# Altium integrated library ISSI SRAM Asynchronous SRAM 5V High-Speed.IntLib: 100 symbols (part 1 of 5)
Pins are listed as number, name and electrical type; pins without a type are passive.

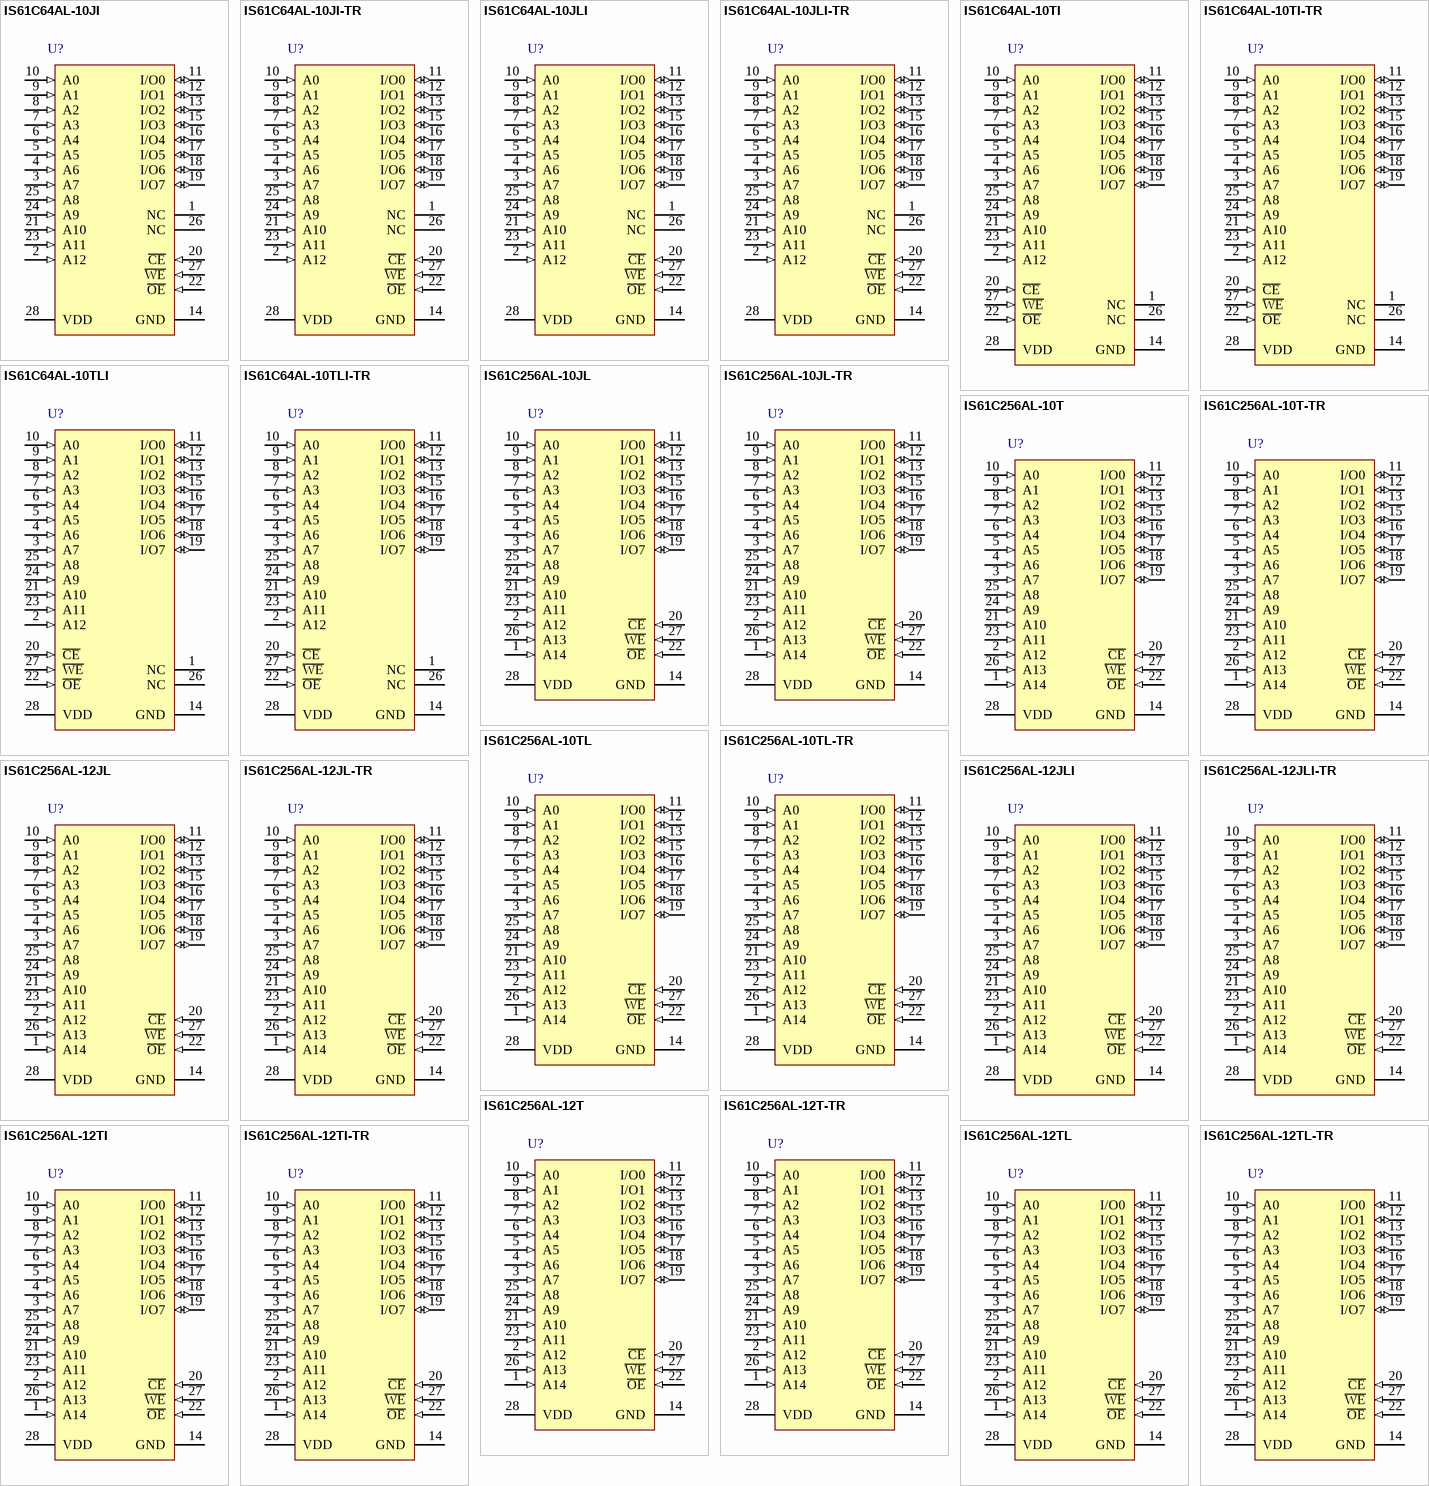
[diagram p0: symbols IS61C64AL-10JI to IS61C256AL-12TL-TR]

## IS61C64AL-10JI
designator U?
64 K High Speed CMOS SRAM, 8 K x 8, -40 to 85 degC, 28-Pin SOJ (SOJ-28_A); Manufacturer: Integrated Silicon Solution Inc (ISSI); PartNumber: IS61C64AL-10JI; Density: 64K; Organization: 8K x 8; Packing: Tray / Tube; Speed (ns): 10; DatasheetVersion: Rev. B; PackageVersion: Rev. D, 02/2003; PackageReference: SOJ-28; PackageDescription: 28-Pin 300 mil SOJ, Body 18.415 x 7.62 mm, Pitch 1.27 mm; Mounting Technology: Surface Mount; ComponentLink1Description: Manufacturer URL; ComponentLink1URL: http://www.issi.com/US/index.shtml; ComponentLink2Description: Datasheet; ComponentLink2URL: http://www.issi.com/WW/pdf/61C64AL.pdf; ComponentLink3Description: Package Specification; ComponentLink3URL: http://www.issi.com/WW/pdf/61C64AL.pdf
footprint ISSI-SOJ-28_B_N (SOJ, 258-Leads, Body 18.54x7.75mm, Pitch 1.27mm, IPC Medium Density)
pins: 1 NC "No Connect", 2 A12 (in) "Address Input", 3 A7 (in) "Address Input", 4 A6 (in) "Address Input", 5 A5 (in) "Address Input", 6 A4 (in) "Address Input", 7 A3 (in) "Address Input", 8 A2 (in) "Address Input", 9 A1 (in) "Address Input", 10 A0 (in) "Address Input", 11 I/O0 (io) "Input/Output", 12 I/O1 (io) "Input/Output", 13 I/O2 (io) "Input/Output", 14 GND (power) "Ground", 15 I/O3 (io) "Input/Output", 16 I/O4 (io) "Input/Output", 17 I/O5 (io) "Input/Output", 18 I/O6 (io) "Input/Output", 19 I/O7 (io) "Input/Output", 20 ~{CE} (in) "Chip Enable 1 Input", 21 A10 (in) "Address Input", 22 ~{OE} (in) "Output Enable Input", 23 A11 (in) "Address Input", 24 A9 (in) "Address Input", 25 A8 (in) "Address Input", 26 NC "No Connect", 27 ~{WE} (in) "Write Enable Input", 28 VDD (power) "Power"

## IS61C64AL-10JI-TR
designator U?
64 K High Speed CMOS SRAM, 8 K x 8, -40 to 85 degC, 28-Pin SOJ (SOJ-28_A); Manufacturer: Integrated Silicon Solution Inc (ISSI); PartNumber: IS61C64AL-10JI-TR; Density: 64K; Organization: 8K x 8; Packing: Tape & Reel; Speed (ns): 10; DatasheetVersion: Rev. B; PackageVersion: Rev. D, 02/2003; PackageReference: SOJ-28; PackageDescription: 28-Pin 300 mil SOJ, Body 18.415 x 7.62 mm, Pitch 1.27 mm; Mounting Technology: Surface Mount; ComponentLink1Description: Manufacturer URL; ComponentLink1URL: http://www.issi.com/US/index.shtml; ComponentLink2Description: Datasheet; ComponentLink2URL: http://www.issi.com/WW/pdf/61C64AL.pdf; ComponentLink3Description: Package Specification; ComponentLink3URL: http://www.issi.com/WW/pdf/61C64AL.pdf
footprint ISSI-SOJ-28_B_N (SOJ, 258-Leads, Body 18.54x7.75mm, Pitch 1.27mm, IPC Medium Density)
pins: 1 NC "No Connect", 2 A12 (in) "Address Input", 3 A7 (in) "Address Input", 4 A6 (in) "Address Input", 5 A5 (in) "Address Input", 6 A4 (in) "Address Input", 7 A3 (in) "Address Input", 8 A2 (in) "Address Input", 9 A1 (in) "Address Input", 10 A0 (in) "Address Input", 11 I/O0 (io) "Input/Output", 12 I/O1 (io) "Input/Output", 13 I/O2 (io) "Input/Output", 14 GND (power) "Ground", 15 I/O3 (io) "Input/Output", 16 I/O4 (io) "Input/Output", 17 I/O5 (io) "Input/Output", 18 I/O6 (io) "Input/Output", 19 I/O7 (io) "Input/Output", 20 ~{CE} (in) "Chip Enable 1 Input", 21 A10 (in) "Address Input", 22 ~{OE} (in) "Output Enable Input", 23 A11 (in) "Address Input", 24 A9 (in) "Address Input", 25 A8 (in) "Address Input", 26 NC "No Connect", 27 ~{WE} (in) "Write Enable Input", 28 VDD (power) "Power"

## IS61C64AL-10JLI
designator U?
64 K High Speed CMOS SRAM, 8 K x 8, -40 to 85 degC, 28-Pin SOJ (SOJ-28_A), Pb-Free; Manufacturer: Integrated Silicon Solution Inc (ISSI); PartNumber: IS61C64AL-10JLI; Density: 64K; Organization: 8K x 8; Packing: Tray / Tube; Speed (ns): 10; DatasheetVersion: Rev. B; PackageVersion: Rev. D, 02/2003; PackageReference: SOJ-28; PackageDescription: 28-Pin 300 mil SOJ, Body 18.415 x 7.62 mm, Pitch 1.27 mm; Supplier 1: Digi-Key; Supplier Part Number 1: 706-1090-ND; Supplier 2: Mouser; Supplier Part Number 2: 870-IS61C64AL-10JLI; RoHS: Pb-Free; Mounting Technology: Surface Mount; ComponentLink1Description: Manufacturer URL; ComponentLink1URL: http://www.issi.com/US/index.shtml; ComponentLink2Description: Datasheet; ComponentLink2URL: http://www.issi.com/WW/pdf/61C64AL.pdf; ComponentLink3Description: Package Specification; ComponentLink3URL: http://www.issi.com/WW/pdf/61C64AL.pdf
footprint ISSI-SOJ-28_B_N (SOJ, 258-Leads, Body 18.54x7.75mm, Pitch 1.27mm, IPC Medium Density)
pins: 1 NC "No Connect", 2 A12 (in) "Address Input", 3 A7 (in) "Address Input", 4 A6 (in) "Address Input", 5 A5 (in) "Address Input", 6 A4 (in) "Address Input", 7 A3 (in) "Address Input", 8 A2 (in) "Address Input", 9 A1 (in) "Address Input", 10 A0 (in) "Address Input", 11 I/O0 (io) "Input/Output", 12 I/O1 (io) "Input/Output", 13 I/O2 (io) "Input/Output", 14 GND (power) "Ground", 15 I/O3 (io) "Input/Output", 16 I/O4 (io) "Input/Output", 17 I/O5 (io) "Input/Output", 18 I/O6 (io) "Input/Output", 19 I/O7 (io) "Input/Output", 20 ~{CE} (in) "Chip Enable 1 Input", 21 A10 (in) "Address Input", 22 ~{OE} (in) "Output Enable Input", 23 A11 (in) "Address Input", 24 A9 (in) "Address Input", 25 A8 (in) "Address Input", 26 NC "No Connect", 27 ~{WE} (in) "Write Enable Input", 28 VDD (power) "Power"

## IS61C64AL-10JLI-TR
designator U?
64 K High Speed CMOS SRAM, 8 K x 8, -40 to 85 degC, 28-Pin SOJ (SOJ-28_A), Pb-Free; Manufacturer: Integrated Silicon Solution Inc (ISSI); PartNumber: IS61C64AL-10JLI-TR; Density: 64K; Organization: 8K x 8; Packing: Tape & Reel; Speed (ns): 10; DatasheetVersion: Rev. B; PackageVersion: Rev. D, 02/2003; PackageReference: SOJ-28; PackageDescription: 28-Pin 300 mil SOJ, Body 18.415 x 7.62 mm, Pitch 1.27 mm; Supplier 1: Digi-Key; Supplier Part Number 1: IS61C64AL-10JLI-TR-ND; Supplier 2: Mouser; Supplier Part Number 2: 870-IS61C64AL10JLITR; RoHS: Pb-Free; Mounting Technology: Surface Mount; ComponentLink1Description: Manufacturer URL; ComponentLink1URL: http://www.issi.com/US/index.shtml; ComponentLink2Description: Datasheet; ComponentLink2URL: http://www.issi.com/WW/pdf/61C64AL.pdf; ComponentLink3Description: Package Specification; ComponentLink3URL: http://www.issi.com/WW/pdf/61C64AL.pdf
footprint ISSI-SOJ-28_B_N (SOJ, 258-Leads, Body 18.54x7.75mm, Pitch 1.27mm, IPC Medium Density)
pins: 1 NC "No Connect", 2 A12 (in) "Address Input", 3 A7 (in) "Address Input", 4 A6 (in) "Address Input", 5 A5 (in) "Address Input", 6 A4 (in) "Address Input", 7 A3 (in) "Address Input", 8 A2 (in) "Address Input", 9 A1 (in) "Address Input", 10 A0 (in) "Address Input", 11 I/O0 (io) "Input/Output", 12 I/O1 (io) "Input/Output", 13 I/O2 (io) "Input/Output", 14 GND (power) "Ground", 15 I/O3 (io) "Input/Output", 16 I/O4 (io) "Input/Output", 17 I/O5 (io) "Input/Output", 18 I/O6 (io) "Input/Output", 19 I/O7 (io) "Input/Output", 20 ~{CE} (in) "Chip Enable 1 Input", 21 A10 (in) "Address Input", 22 ~{OE} (in) "Output Enable Input", 23 A11 (in) "Address Input", 24 A9 (in) "Address Input", 25 A8 (in) "Address Input", 26 NC "No Connect", 27 ~{WE} (in) "Write Enable Input", 28 VDD (power) "Power"

## IS61C64AL-10TI
designator U?
64 K High Speed CMOS SRAM, 8 K x 8, -40 to 85 degC, 28-Pin SOP (TSOP-1-28); Manufacturer: Integrated Silicon Solution Inc (ISSI); PartNumber: IS61C64AL-10TI; Density: 64K; Organization: 8K x 8; Packing: Tray / Tube; Speed (ns): 10; DatasheetVersion: Rev. B; PackageVersion: Rev. F, 09/2009; PackageReference: TSOP-1-28; PackageDescription: 28-Pin 8 x 13.4 mm TSOP-1, Pitch 0.55 mm; Mounting Technology: Surface Mount; Code_JEDEC: MO- 183; ComponentLink1Description: Manufacturer URL; ComponentLink1URL: http://www.issi.com/US/index.shtml; ComponentLink2Description: Datasheet; ComponentLink2URL: http://www.issi.com/WW/pdf/61C64AL.pdf; ComponentLink3Description: Package Specification; ComponentLink3URL: http://www.issi.com/WW/pdf/62-65C256AL.pdf
footprint ISSI-TSOP-1-28-8000X13400DE_N (SOP, 28-Leads, Body 11.9x8.1mm, Pitch 0.55mm, IPC Medium Density)
pins: 1 NC "No Connect", 2 A12 (in) "Address Inputs", 3 A7 (in) "Address Inputs", 4 A6 (in) "Address Inputs", 5 A5 (in) "Address Inputs", 6 A4 (in) "Address Inputs", 7 A3 (in) "Address Inputs", 8 A2 (in) "Address Inputs", 9 A1 (in) "Address Inputs", 10 A0 (in) "Address Inputs", 11 I/O0 (io) "Input/Output", 12 I/O1 (io) "Input/Output", 13 I/O2 (io) "Input/Output", 14 GND (power) "Ground", 15 I/O3 (io) "Input/Output", 16 I/O4 (io) "Input/Output", 17 I/O5 (io) "Input/Output", 18 I/O6 (io) "Input/Output", 19 I/O7 (io) "Input/Output", 20 ~{CE} (in) "Chip Enable 1 Input", 21 A10 (in) "Address Inputs", 22 ~{OE} (in) "Output Enable Input", 23 A11 (in) "Address Inputs", 24 A9 (in) "Address Inputs", 25 A8 (in) "Address Inputs", 26 NC "No Connect", 27 ~{WE} (in) "Write Enable Input", 28 VDD (power) "Power"

## IS61C64AL-10TI-TR
designator U?
64 K High Speed CMOS SRAM, 8 K x 8, -40 to 85 degC, 28-Pin SOP (TSOP-1-28); Manufacturer: Integrated Silicon Solution Inc (ISSI); PartNumber: IS61C64AL-10TI-TR; Density: 64K; Organization: 8K x 8; Packing: Tape & Reel; Speed (ns): 10; DatasheetVersion: Rev. B; PackageVersion: Rev. F, 09/2009; PackageReference: TSOP-1-28; PackageDescription: 28-Pin 8 x 13.4 mm TSOP-1, Pitch 0.55 mm; Mounting Technology: Surface Mount; Code_JEDEC: MO- 183; ComponentLink1Description: Manufacturer URL; ComponentLink1URL: http://www.issi.com/US/index.shtml; ComponentLink2Description: Datasheet; ComponentLink2URL: http://www.issi.com/WW/pdf/61C64AL.pdf; ComponentLink3Description: Package Specification; ComponentLink3URL: http://www.issi.com/WW/pdf/62-65C256AL.pdf
footprint ISSI-TSOP-1-28-8000X13400DE_N (SOP, 28-Leads, Body 11.9x8.1mm, Pitch 0.55mm, IPC Medium Density)
pins: 1 NC "No Connect", 2 A12 (in) "Address Inputs", 3 A7 (in) "Address Inputs", 4 A6 (in) "Address Inputs", 5 A5 (in) "Address Inputs", 6 A4 (in) "Address Inputs", 7 A3 (in) "Address Inputs", 8 A2 (in) "Address Inputs", 9 A1 (in) "Address Inputs", 10 A0 (in) "Address Inputs", 11 I/O0 (io) "Input/Output", 12 I/O1 (io) "Input/Output", 13 I/O2 (io) "Input/Output", 14 GND (power) "Ground", 15 I/O3 (io) "Input/Output", 16 I/O4 (io) "Input/Output", 17 I/O5 (io) "Input/Output", 18 I/O6 (io) "Input/Output", 19 I/O7 (io) "Input/Output", 20 ~{CE} (in) "Chip Enable 1 Input", 21 A10 (in) "Address Inputs", 22 ~{OE} (in) "Output Enable Input", 23 A11 (in) "Address Inputs", 24 A9 (in) "Address Inputs", 25 A8 (in) "Address Inputs", 26 NC "No Connect", 27 ~{WE} (in) "Write Enable Input", 28 VDD (power) "Power"

## IS61C64AL-10TLI
designator U?
64 K High Speed CMOS SRAM, 8 K x 8, -40 to 85 degC, 28-Pin SOP (TSOP-1-28), Pb-Free; Manufacturer: Integrated Silicon Solution Inc (ISSI); PartNumber: IS61C64AL-10TLI; Density: 64K; Organization: 8K x 8; Packing: Tray / Tube; Speed (ns): 10; DatasheetVersion: Rev. B; PackageVersion: Rev. B, 01/1997; PackageReference: TSOP-1-28; PackageDescription: 28-Pin Plastic TSOP-1, Body 8 x 11.8 mm, Pitch 0.55 mm; Supplier 1: Digi-Key; Supplier Part Number 1: IS61C64AL-10TLI-ND; Supplier 2: Mouser; Supplier Part Number 2: 870-IS61C64AL-10TLI; RoHS: Pb-Free; Mounting Technology: Surface Mount; ComponentLink1Description: Manufacturer URL; ComponentLink1URL: http://www.issi.com/US/index.shtml; ComponentLink2Description: Datasheet; ComponentLink2URL: http://www.issi.com/WW/pdf/61C64AL.pdf; ComponentLink3Description: Package Specification; ComponentLink3URL: http://www.issi.com/WW/pdf/61C64AL.pdf
footprint ISSI-TSOP-1-28-8000X11800DE_N (SOP, 28-Leads, Body 11.9x8.1mm, Pitch 0.55mm, IPC Medium Density)
pins: 1 NC "No Connect", 2 A12 (in) "Address Inputs", 3 A7 (in) "Address Inputs", 4 A6 (in) "Address Inputs", 5 A5 (in) "Address Inputs", 6 A4 (in) "Address Inputs", 7 A3 (in) "Address Inputs", 8 A2 (in) "Address Inputs", 9 A1 (in) "Address Inputs", 10 A0 (in) "Address Inputs", 11 I/O0 (io) "Input/Output", 12 I/O1 (io) "Input/Output", 13 I/O2 (io) "Input/Output", 14 GND (power) "Ground", 15 I/O3 (io) "Input/Output", 16 I/O4 (io) "Input/Output", 17 I/O5 (io) "Input/Output", 18 I/O6 (io) "Input/Output", 19 I/O7 (io) "Input/Output", 20 ~{CE} (in) "Chip Enable 1 Input", 21 A10 (in) "Address Inputs", 22 ~{OE} (in) "Output Enable Input", 23 A11 (in) "Address Inputs", 24 A9 (in) "Address Inputs", 25 A8 (in) "Address Inputs", 26 NC "No Connect", 27 ~{WE} (in) "Write Enable Input", 28 VDD (power) "Power"

## IS61C64AL-10TLI-TR
designator U?
64 K High Speed CMOS SRAM, 8 K x 8, -40 to 85 degC, 28-Pin SOP (TSOP-1-28), Pb-Free; Manufacturer: Integrated Silicon Solution Inc (ISSI); PartNumber: IS61C64AL-10TLI-TR; Density: 64K; Organization: 8K x 8; Packing: Tape & Reel; Speed (ns): 10; DatasheetVersion: Rev. B; PackageVersion: Rev. F, 09/2009; PackageReference: TSOP-1-28; PackageDescription: 28-Pin 8 x 13.4 mm TSOP-1, Pitch 0.55 mm; Supplier 1: Digi-Key; Supplier Part Number 1: IS61C64AL-10TLI-TR-ND; Supplier 2: Newark; Supplier Part Number 2: 43M5050; Supplier 3: Mouser; Supplier Part Number 3: 870-IS61C64AL10TLITR; RoHS: Pb-Free; Mounting Technology: Surface Mount; Code_JEDEC: MO- 183; ComponentLink1Description: Manufacturer URL; ComponentLink1URL: http://www.issi.com/US/index.shtml; ComponentLink2Description: Datasheet; ComponentLink2URL: http://www.issi.com/WW/pdf/61C64AL.pdf; ComponentLink3Description: Package Specification; ComponentLink3URL: http://www.issi.com/WW/pdf/62-65C256AL.pdf
footprint ISSI-TSOP-1-28-8000X13400DE_N (SOP, 28-Leads, Body 11.9x8.1mm, Pitch 0.55mm, IPC Medium Density)
pins: 1 NC "No Connect", 2 A12 (in) "Address Inputs", 3 A7 (in) "Address Inputs", 4 A6 (in) "Address Inputs", 5 A5 (in) "Address Inputs", 6 A4 (in) "Address Inputs", 7 A3 (in) "Address Inputs", 8 A2 (in) "Address Inputs", 9 A1 (in) "Address Inputs", 10 A0 (in) "Address Inputs", 11 I/O0 (io) "Input/Output", 12 I/O1 (io) "Input/Output", 13 I/O2 (io) "Input/Output", 14 GND (power) "Ground", 15 I/O3 (io) "Input/Output", 16 I/O4 (io) "Input/Output", 17 I/O5 (io) "Input/Output", 18 I/O6 (io) "Input/Output", 19 I/O7 (io) "Input/Output", 20 ~{CE} (in) "Chip Enable 1 Input", 21 A10 (in) "Address Inputs", 22 ~{OE} (in) "Output Enable Input", 23 A11 (in) "Address Inputs", 24 A9 (in) "Address Inputs", 25 A8 (in) "Address Inputs", 26 NC "No Connect", 27 ~{WE} (in) "Write Enable Input", 28 VDD (power) "Power"

## IS61C256AL-10JL
designator U?
256 K High Speed CMOS SRAM, 32 K x 8, 0 to 70 degC, 28-Pin SOJ (SOJ-28_A), Pb-Free; Manufacturer: Integrated Silicon Solution Inc (ISSI); PartNumber: IS61C256AL-10JL; Density: 256K; Organization: 32K x 8; Packing: Tray / Tube; Speed (ns): 10; DatasheetVersion: Rev. C; PackageVersion: Rev. C, 07/2006; PackageReference: SOJ-28; PackageDescription: 28-Pin 300 mil SOJ, Body 18.12 x 7.585 mm, Pitch 1.27 mm; RoHS: Pb-Free; Mounting Technology: Surface Mount; ComponentLink1Description: Manufacturer URL; ComponentLink1URL: http://www.issi.com/US/index.shtml; ComponentLink2Description: Datasheet; ComponentLink2URL: http://www.issi.com/WW/pdf/61C256AL.pdf; ComponentLink3Description: Package Specification; ComponentLink3URL: http://www.issi.com/WW/pdf/61C256AL.pdf
footprint ISSI-SOJ-28_A_N (SOJ, 28-Leads, Body 18.54x7.75mm, Pitch 1.27mm, IPC Medium Density)
pins: 1 A14 (in) "Address Input", 2 A12 (in) "Address Input", 3 A7 (in) "Address Input", 4 A6 (in) "Address Input", 5 A5 (in) "Address Input", 6 A4 (in) "Address Input", 7 A3 (in) "Address Input", 8 A2 (in) "Address Input", 9 A1 (in) "Address Input", 10 A0 (in) "Address Input", 11 I/O0 (io) "Input/Output", 12 I/O1 (io) "Input/Output", 13 I/O2 (io) "Input/Output", 14 GND (power) "Ground", 15 I/O3 (io) "Input/Output", 16 I/O4 (io) "Input/Output", 17 I/O5 (io) "Input/Output", 18 I/O6 (io) "Input/Output", 19 I/O7 (io) "Input/Output", 20 ~{CE} (in) "Chip Enable 1 Input", 21 A10 (in) "Address Input", 22 ~{OE} (in) "Output Enable Input", 23 A11 (in) "Address Input", 24 A9 (in) "Address Input", 25 A8 (in) "Address Input", 26 A13 (in) "Address Input", 27 ~{WE} (in) "Write Enable Input", 28 VDD (power) "Power"

## IS61C256AL-10JL-TR
designator U?
256 K High Speed CMOS SRAM, 32 K x 8, 0 to 70 degC, 28-Pin SOJ (SOJ-28_A), Pb-Free; Manufacturer: Integrated Silicon Solution Inc (ISSI); PartNumber: IS61C256AL-10JL-TR; Density: 256K; Organization: 32K x 8; Packing: Tape & Reel; Speed (ns): 10; DatasheetVersion: Rev. C; PackageVersion: Rev. C, 07/2006; PackageReference: SOJ-28; PackageDescription: 28-Pin 300 mil SOJ, Body 18.12 x 7.585 mm, Pitch 1.27 mm; RoHS: Pb-Free; Mounting Technology: Surface Mount; ComponentLink1Description: Manufacturer URL; ComponentLink1URL: http://www.issi.com/US/index.shtml; ComponentLink2Description: Datasheet; ComponentLink2URL: http://www.issi.com/WW/pdf/61C256AL.pdf; ComponentLink3Description: Package Specification; ComponentLink3URL: http://www.issi.com/WW/pdf/61C256AL.pdf
footprint ISSI-SOJ-28_A_N (SOJ, 28-Leads, Body 18.54x7.75mm, Pitch 1.27mm, IPC Medium Density)
pins: 1 A14 (in) "Address Input", 2 A12 (in) "Address Input", 3 A7 (in) "Address Input", 4 A6 (in) "Address Input", 5 A5 (in) "Address Input", 6 A4 (in) "Address Input", 7 A3 (in) "Address Input", 8 A2 (in) "Address Input", 9 A1 (in) "Address Input", 10 A0 (in) "Address Input", 11 I/O0 (io) "Input/Output", 12 I/O1 (io) "Input/Output", 13 I/O2 (io) "Input/Output", 14 GND (power) "Ground", 15 I/O3 (io) "Input/Output", 16 I/O4 (io) "Input/Output", 17 I/O5 (io) "Input/Output", 18 I/O6 (io) "Input/Output", 19 I/O7 (io) "Input/Output", 20 ~{CE} (in) "Chip Enable 1 Input", 21 A10 (in) "Address Input", 22 ~{OE} (in) "Output Enable Input", 23 A11 (in) "Address Input", 24 A9 (in) "Address Input", 25 A8 (in) "Address Input", 26 A13 (in) "Address Input", 27 ~{WE} (in) "Write Enable Input", 28 VDD (power) "Power"

## IS61C256AL-10T
designator U?
256 K High Speed CMOS SRAM, 32 K x 8, 0 to 70 degC, 28-Pin SOP (TSOP-1-28); Manufacturer: Integrated Silicon Solution Inc (ISSI); PartNumber: IS61C256AL-10T; Density: 256K; Organization: 32K x 8; Packing: Tray / Tube; Speed (ns): 10; DatasheetVersion: Rev. C; PackageVersion: Rev. F, 09/2009; PackageReference: TSOP-1-28; PackageDescription: 28-Pin 8 x 13.4 mm TSOP-1, Pitch 0.55 mm; Mounting Technology: Surface Mount; Code_JEDEC: MO- 183; ComponentLink1Description: Manufacturer URL; ComponentLink1URL: http://www.issi.com/US/index.shtml; ComponentLink2Description: Datasheet; ComponentLink2URL: http://www.issi.com/WW/pdf/61C256AL.pdf; ComponentLink3Description: Package Specification; ComponentLink3URL: http://www.issi.com/WW/pdf/62-65C256AL.pdf
footprint ISSI-TSOP-1-28-8000X13400DE_N (SOP, 28-Leads, Body 11.9x8.1mm, Pitch 0.55mm, IPC Medium Density)
pins: 1 A14 (in) "Address Input", 2 A12 (in) "Address Input", 3 A7 (in) "Address Input", 4 A6 (in) "Address Input", 5 A5 (in) "Address Input", 6 A4 (in) "Address Input", 7 A3 (in) "Address Input", 8 A2 (in) "Address Input", 9 A1 (in) "Address Input", 10 A0 (in) "Address Input", 11 I/O0 (io) "Input/Output", 12 I/O1 (io) "Input/Output", 13 I/O2 (io) "Input/Output", 14 GND (power) "Ground", 15 I/O3 (io) "Input/Output", 16 I/O4 (io) "Input/Output", 17 I/O5 (io) "Input/Output", 18 I/O6 (io) "Input/Output", 19 I/O7 (io) "Input/Output", 20 ~{CE} (in) "Chip Enable 1 Input", 21 A10 (in) "Address Input", 22 ~{OE} (in) "Output Enable Input", 23 A11 (in) "Address Input", 24 A9 (in) "Address Input", 25 A8 (in) "Address Input", 26 A13 (in) "Address Input", 27 ~{WE} (in) "Write Enable Input", 28 VDD (power) "Power"

## IS61C256AL-10T-TR
designator U?
256 K High Speed CMOS SRAM, 32 K x 8, 0 to 70 degC, 28-Pin SOP (TSOP-1-28); Manufacturer: Integrated Silicon Solution Inc (ISSI); PartNumber: IS61C256AL-10T-TR; Density: 256K; Organization: 32K x 8; Packing: Tape & Reel; Speed (ns): 10; DatasheetVersion: Rev. C; PackageVersion: Rev. F, 09/2009; PackageReference: TSOP-1-28; PackageDescription: 28-Pin 8 x 13.4 mm TSOP-1, Pitch 0.55 mm; Mounting Technology: Surface Mount; Code_JEDEC: MO- 183; ComponentLink1Description: Manufacturer URL; ComponentLink1URL: http://www.issi.com/US/index.shtml; ComponentLink2Description: Datasheet; ComponentLink2URL: http://www.issi.com/WW/pdf/61C256AL.pdf; ComponentLink3Description: Package Specification; ComponentLink3URL: http://www.issi.com/WW/pdf/62-65C256AL.pdf
footprint ISSI-TSOP-1-28-8000X13400DE_N (SOP, 28-Leads, Body 11.9x8.1mm, Pitch 0.55mm, IPC Medium Density)
pins: 1 A14 (in) "Address Input", 2 A12 (in) "Address Input", 3 A7 (in) "Address Input", 4 A6 (in) "Address Input", 5 A5 (in) "Address Input", 6 A4 (in) "Address Input", 7 A3 (in) "Address Input", 8 A2 (in) "Address Input", 9 A1 (in) "Address Input", 10 A0 (in) "Address Input", 11 I/O0 (io) "Input/Output", 12 I/O1 (io) "Input/Output", 13 I/O2 (io) "Input/Output", 14 GND (power) "Ground", 15 I/O3 (io) "Input/Output", 16 I/O4 (io) "Input/Output", 17 I/O5 (io) "Input/Output", 18 I/O6 (io) "Input/Output", 19 I/O7 (io) "Input/Output", 20 ~{CE} (in) "Chip Enable 1 Input", 21 A10 (in) "Address Input", 22 ~{OE} (in) "Output Enable Input", 23 A11 (in) "Address Input", 24 A9 (in) "Address Input", 25 A8 (in) "Address Input", 26 A13 (in) "Address Input", 27 ~{WE} (in) "Write Enable Input", 28 VDD (power) "Power"

## IS61C256AL-10TL
designator U?
256 K High Speed CMOS SRAM, 32 K x 8, 0 to 70 degC, 28-Pin SOP (TSOP-1-28), Pb-Free; Manufacturer: Integrated Silicon Solution Inc (ISSI); PartNumber: IS61C256AL-10TL; Density: 256K; Organization: 32K x 8; Packing: Tray / Tube; Speed (ns): 10; DatasheetVersion: Rev. C; PackageVersion: Rev. F, 09/2009; PackageReference: TSOP-1-28; PackageDescription: 28-Pin 8 x 13.4 mm TSOP-1, Pitch 0.55 mm; RoHS: Pb-Free; Mounting Technology: Surface Mount; Code_JEDEC: MO- 183; ComponentLink1Description: Manufacturer URL; ComponentLink1URL: http://www.issi.com/US/index.shtml; ComponentLink2Description: Datasheet; ComponentLink2URL: http://www.issi.com/WW/pdf/61C256AL.pdf; ComponentLink3Description: Package Specification; ComponentLink3URL: http://www.issi.com/WW/pdf/62-65C256AL.pdf
footprint ISSI-TSOP-1-28-8000X13400DE_N (SOP, 28-Leads, Body 11.9x8.1mm, Pitch 0.55mm, IPC Medium Density)
pins: 1 A14 (in) "Address Input", 2 A12 (in) "Address Input", 3 A7 (in) "Address Input", 4 A6 (in) "Address Input", 5 A5 (in) "Address Input", 6 A4 (in) "Address Input", 7 A3 (in) "Address Input", 8 A2 (in) "Address Input", 9 A1 (in) "Address Input", 10 A0 (in) "Address Input", 11 I/O0 (io) "Input/Output", 12 I/O1 (io) "Input/Output", 13 I/O2 (io) "Input/Output", 14 GND (power) "Ground", 15 I/O3 (io) "Input/Output", 16 I/O4 (io) "Input/Output", 17 I/O5 (io) "Input/Output", 18 I/O6 (io) "Input/Output", 19 I/O7 (io) "Input/Output", 20 ~{CE} (in) "Chip Enable 1 Input", 21 A10 (in) "Address Input", 22 ~{OE} (in) "Output Enable Input", 23 A11 (in) "Address Input", 24 A9 (in) "Address Input", 25 A8 (in) "Address Input", 26 A13 (in) "Address Input", 27 ~{WE} (in) "Write Enable Input", 28 VDD (power) "Power"

## IS61C256AL-10TL-TR
designator U?
256 K High Speed CMOS SRAM, 32 K x 8, 0 to 70 degC, 28-Pin SOP (TSOP-1-28), Pb-Free; Manufacturer: Integrated Silicon Solution Inc (ISSI); PartNumber: IS61C256AL-10TL-TR; Density: 256K; Organization: 32K x 8; Packing: Tape & Reel; Speed (ns): 10; DatasheetVersion: Rev. C; PackageVersion: Rev. F, 09/2009; PackageReference: TSOP-1-28; PackageDescription: 28-Pin 8 x 13.4 mm TSOP-1, Pitch 0.55 mm; RoHS: Pb-Free; Mounting Technology: Surface Mount; Code_JEDEC: MO- 183; ComponentLink1Description: Manufacturer URL; ComponentLink1URL: http://www.issi.com/US/index.shtml; ComponentLink2Description: Datasheet; ComponentLink2URL: http://www.issi.com/WW/pdf/61C256AL.pdf; ComponentLink3Description: Package Specification; ComponentLink3URL: http://www.issi.com/WW/pdf/62-65C256AL.pdf
footprint ISSI-TSOP-1-28-8000X13400DE_N (SOP, 28-Leads, Body 11.9x8.1mm, Pitch 0.55mm, IPC Medium Density)
pins: 1 A14 (in) "Address Input", 2 A12 (in) "Address Input", 3 A7 (in) "Address Input", 4 A6 (in) "Address Input", 5 A5 (in) "Address Input", 6 A4 (in) "Address Input", 7 A3 (in) "Address Input", 8 A2 (in) "Address Input", 9 A1 (in) "Address Input", 10 A0 (in) "Address Input", 11 I/O0 (io) "Input/Output", 12 I/O1 (io) "Input/Output", 13 I/O2 (io) "Input/Output", 14 GND (power) "Ground", 15 I/O3 (io) "Input/Output", 16 I/O4 (io) "Input/Output", 17 I/O5 (io) "Input/Output", 18 I/O6 (io) "Input/Output", 19 I/O7 (io) "Input/Output", 20 ~{CE} (in) "Chip Enable 1 Input", 21 A10 (in) "Address Input", 22 ~{OE} (in) "Output Enable Input", 23 A11 (in) "Address Input", 24 A9 (in) "Address Input", 25 A8 (in) "Address Input", 26 A13 (in) "Address Input", 27 ~{WE} (in) "Write Enable Input", 28 VDD (power) "Power"

## IS61C256AL-12JL
designator U?
256 K High Speed CMOS SRAM, 32 K x 8, 0 to 70 degC, 28-Pin SOJ (SOJ-28_A), Pb-Free; Manufacturer: Integrated Silicon Solution Inc (ISSI); PartNumber: IS61C256AL-12JL; Density: 256K; Organization: 32K x 8; Packing: Tray / Tube; Speed (ns): 12; DatasheetVersion: Rev. C; PackageVersion: Rev. C, 07/2006; PackageReference: SOJ-28; PackageDescription: 28-Pin 300 mil SOJ, Body 18.12 x 7.585 mm, Pitch 1.27 mm; RoHS: Pb-Free; Mounting Technology: Surface Mount; ComponentLink1Description: Manufacturer URL; ComponentLink1URL: http://www.issi.com/US/index.shtml; ComponentLink2Description: Datasheet; ComponentLink2URL: http://www.issi.com/WW/pdf/61C256AL.pdf; ComponentLink3Description: Package Specification; ComponentLink3URL: http://www.issi.com/WW/pdf/61C256AL.pdf
footprint ISSI-SOJ-28_A_N (SOJ, 28-Leads, Body 18.54x7.75mm, Pitch 1.27mm, IPC Medium Density)
pins: 1 A14 (in) "Address Input", 2 A12 (in) "Address Input", 3 A7 (in) "Address Input", 4 A6 (in) "Address Input", 5 A5 (in) "Address Input", 6 A4 (in) "Address Input", 7 A3 (in) "Address Input", 8 A2 (in) "Address Input", 9 A1 (in) "Address Input", 10 A0 (in) "Address Input", 11 I/O0 (io) "Input/Output", 12 I/O1 (io) "Input/Output", 13 I/O2 (io) "Input/Output", 14 GND (power) "Ground", 15 I/O3 (io) "Input/Output", 16 I/O4 (io) "Input/Output", 17 I/O5 (io) "Input/Output", 18 I/O6 (io) "Input/Output", 19 I/O7 (io) "Input/Output", 20 ~{CE} (in) "Chip Enable 1 Input", 21 A10 (in) "Address Input", 22 ~{OE} (in) "Output Enable Input", 23 A11 (in) "Address Input", 24 A9 (in) "Address Input", 25 A8 (in) "Address Input", 26 A13 (in) "Address Input", 27 ~{WE} (in) "Write Enable Input", 28 VDD (power) "Power"

## IS61C256AL-12JL-TR
designator U?
256 K High Speed CMOS SRAM, 32 K x 8, 0 to 70 degC, 28-Pin SOJ (SOJ-28_A), Pb-Free; Manufacturer: Integrated Silicon Solution Inc (ISSI); PartNumber: IS61C256AL-12JL-TR; Density: 256K; Organization: 32K x 8; Packing: Tape & Reel; Speed (ns): 12; DatasheetVersion: Rev. C; PackageVersion: Rev. C, 07/2006; PackageReference: SOJ-28; PackageDescription: 28-Pin 300 mil SOJ, Body 18.12 x 7.585 mm, Pitch 1.27 mm; RoHS: Pb-Free; Mounting Technology: Surface Mount; ComponentLink1Description: Manufacturer URL; ComponentLink1URL: http://www.issi.com/US/index.shtml; ComponentLink2Description: Datasheet; ComponentLink2URL: http://www.issi.com/WW/pdf/61C256AL.pdf; ComponentLink3Description: Package Specification; ComponentLink3URL: http://www.issi.com/WW/pdf/61C256AL.pdf
footprint ISSI-SOJ-28_A_N (SOJ, 28-Leads, Body 18.54x7.75mm, Pitch 1.27mm, IPC Medium Density)
pins: 1 A14 (in) "Address Input", 2 A12 (in) "Address Input", 3 A7 (in) "Address Input", 4 A6 (in) "Address Input", 5 A5 (in) "Address Input", 6 A4 (in) "Address Input", 7 A3 (in) "Address Input", 8 A2 (in) "Address Input", 9 A1 (in) "Address Input", 10 A0 (in) "Address Input", 11 I/O0 (io) "Input/Output", 12 I/O1 (io) "Input/Output", 13 I/O2 (io) "Input/Output", 14 GND (power) "Ground", 15 I/O3 (io) "Input/Output", 16 I/O4 (io) "Input/Output", 17 I/O5 (io) "Input/Output", 18 I/O6 (io) "Input/Output", 19 I/O7 (io) "Input/Output", 20 ~{CE} (in) "Chip Enable 1 Input", 21 A10 (in) "Address Input", 22 ~{OE} (in) "Output Enable Input", 23 A11 (in) "Address Input", 24 A9 (in) "Address Input", 25 A8 (in) "Address Input", 26 A13 (in) "Address Input", 27 ~{WE} (in) "Write Enable Input", 28 VDD (power) "Power"

## IS61C256AL-12JLI
designator U?
256 K High Speed CMOS SRAM, 32 K x 8, -40 to 85 degC, 28-Pin SOJ (SOJ-28_A), Pb-Free; Manufacturer: Integrated Silicon Solution Inc (ISSI); PartNumber: IS61C256AL-12JLI; Density: 256K; Organization: 32K x 8; Packing: Tray / Tube; Speed (ns): 12; DatasheetVersion: Rev. C; PackageVersion: Rev. C, 07/2006; PackageReference: SOJ-28; PackageDescription: 28-Pin 300 mil SOJ, Body 18.12 x 7.585 mm, Pitch 1.27 mm; Supplier 1: Digi-Key; Supplier Part Number 1: 706-1030-ND; Supplier 2: Farnell; Supplier Part Number 2: 2119197; Supplier 3: Newark; Supplier Part Number 3: 43M5035; Supplier 4: Mouser; Supplier Part Number 4: 870-IS61C256AL-12JLI; RoHS: Pb-Free; Mounting Technology: Surface Mount; ComponentLink1Description: Manufacturer URL; ComponentLink1URL: http://www.issi.com/US/index.shtml; ComponentLink2Description: Datasheet; ComponentLink2URL: http://www.issi.com/WW/pdf/61C256AL.pdf; ComponentLink3Description: Package Specification; ComponentLink3URL: http://www.issi.com/WW/pdf/61C256AL.pdf
footprint ISSI-SOJ-28_A_N (SOJ, 28-Leads, Body 18.54x7.75mm, Pitch 1.27mm, IPC Medium Density)
pins: 1 A14 (in) "Address Input", 2 A12 (in) "Address Input", 3 A7 (in) "Address Input", 4 A6 (in) "Address Input", 5 A5 (in) "Address Input", 6 A4 (in) "Address Input", 7 A3 (in) "Address Input", 8 A2 (in) "Address Input", 9 A1 (in) "Address Input", 10 A0 (in) "Address Input", 11 I/O0 (io) "Input/Output", 12 I/O1 (io) "Input/Output", 13 I/O2 (io) "Input/Output", 14 GND (power) "Ground", 15 I/O3 (io) "Input/Output", 16 I/O4 (io) "Input/Output", 17 I/O5 (io) "Input/Output", 18 I/O6 (io) "Input/Output", 19 I/O7 (io) "Input/Output", 20 ~{CE} (in) "Chip Enable 1 Input", 21 A10 (in) "Address Input", 22 ~{OE} (in) "Output Enable Input", 23 A11 (in) "Address Input", 24 A9 (in) "Address Input", 25 A8 (in) "Address Input", 26 A13 (in) "Address Input", 27 ~{WE} (in) "Write Enable Input", 28 VDD (power) "Power"

## IS61C256AL-12JLI-TR
designator U?
256 K High Speed CMOS SRAM, 32 K x 8, -40 to 85 degC, 28-Pin SOJ (SOJ-28_A), Pb-Free; Manufacturer: Integrated Silicon Solution Inc (ISSI); PartNumber: IS61C256AL-12JLI-TR; Density: 256K; Organization: 32K x 8; Packing: Tape & Reel; Speed (ns): 12; DatasheetVersion: Rev. C; PackageVersion: Rev. C, 07/2006; PackageReference: SOJ-28; PackageDescription: 28-Pin 300 mil SOJ, Body 18.12 x 7.585 mm, Pitch 1.27 mm; Supplier 1: Digi-Key; Supplier Part Number 1: IS61C256AL-12JLI-TR-ND; Supplier 2: Newark; Supplier Part Number 2: 43M5036; Supplier 3: Mouser; Supplier Part Number 3: 870-61C256AL12JLITR; RoHS: Pb-Free; Mounting Technology: Surface Mount; ComponentLink1Description: Manufacturer URL; ComponentLink1URL: http://www.issi.com/US/index.shtml; ComponentLink2Description: Datasheet; ComponentLink2URL: http://www.issi.com/WW/pdf/61C256AL.pdf; ComponentLink3Description: Package Specification; ComponentLink3URL: http://www.issi.com/WW/pdf/61C256AL.pdf
footprint ISSI-SOJ-28_A_N (SOJ, 28-Leads, Body 18.54x7.75mm, Pitch 1.27mm, IPC Medium Density)
pins: 1 A14 (in) "Address Input", 2 A12 (in) "Address Input", 3 A7 (in) "Address Input", 4 A6 (in) "Address Input", 5 A5 (in) "Address Input", 6 A4 (in) "Address Input", 7 A3 (in) "Address Input", 8 A2 (in) "Address Input", 9 A1 (in) "Address Input", 10 A0 (in) "Address Input", 11 I/O0 (io) "Input/Output", 12 I/O1 (io) "Input/Output", 13 I/O2 (io) "Input/Output", 14 GND (power) "Ground", 15 I/O3 (io) "Input/Output", 16 I/O4 (io) "Input/Output", 17 I/O5 (io) "Input/Output", 18 I/O6 (io) "Input/Output", 19 I/O7 (io) "Input/Output", 20 ~{CE} (in) "Chip Enable 1 Input", 21 A10 (in) "Address Input", 22 ~{OE} (in) "Output Enable Input", 23 A11 (in) "Address Input", 24 A9 (in) "Address Input", 25 A8 (in) "Address Input", 26 A13 (in) "Address Input", 27 ~{WE} (in) "Write Enable Input", 28 VDD (power) "Power"

## IS61C256AL-12T
designator U?
256 K High Speed CMOS SRAM, 32 K x 8, 0 to 70 degC, 28-Pin SOP (TSOP-1-28); Manufacturer: Integrated Silicon Solution Inc (ISSI); PartNumber: IS61C256AL-12T; Density: 256K; Organization: 32K x 8; Packing: Tray / Tube; Speed (ns): 12; DatasheetVersion: Rev. C; PackageVersion: Rev. F, 09/2009; PackageReference: TSOP-1-28; PackageDescription: 28-Pin 8 x 13.4 mm TSOP-1, Pitch 0.55 mm; Mounting Technology: Surface Mount; Code_JEDEC: MO- 183; ComponentLink1Description: Manufacturer URL; ComponentLink1URL: http://www.issi.com/US/index.shtml; ComponentLink2Description: Datasheet; ComponentLink2URL: http://www.issi.com/WW/pdf/61C256AL.pdf; ComponentLink3Description: Package Specification; ComponentLink3URL: http://www.issi.com/WW/pdf/62-65C256AL.pdf
footprint ISSI-TSOP-1-28-8000X13400DE_N (SOP, 28-Leads, Body 11.9x8.1mm, Pitch 0.55mm, IPC Medium Density)
pins: 1 A14 (in) "Address Input", 2 A12 (in) "Address Input", 3 A7 (in) "Address Input", 4 A6 (in) "Address Input", 5 A5 (in) "Address Input", 6 A4 (in) "Address Input", 7 A3 (in) "Address Input", 8 A2 (in) "Address Input", 9 A1 (in) "Address Input", 10 A0 (in) "Address Input", 11 I/O0 (io) "Input/Output", 12 I/O1 (io) "Input/Output", 13 I/O2 (io) "Input/Output", 14 GND (power) "Ground", 15 I/O3 (io) "Input/Output", 16 I/O4 (io) "Input/Output", 17 I/O5 (io) "Input/Output", 18 I/O6 (io) "Input/Output", 19 I/O7 (io) "Input/Output", 20 ~{CE} (in) "Chip Enable 1 Input", 21 A10 (in) "Address Input", 22 ~{OE} (in) "Output Enable Input", 23 A11 (in) "Address Input", 24 A9 (in) "Address Input", 25 A8 (in) "Address Input", 26 A13 (in) "Address Input", 27 ~{WE} (in) "Write Enable Input", 28 VDD (power) "Power"

## IS61C256AL-12T-TR
designator U?
256 K High Speed CMOS SRAM, 32 K x 8, 0 to 70 degC, 28-Pin SOP (TSOP-1-28); Manufacturer: Integrated Silicon Solution Inc (ISSI); PartNumber: IS61C256AL-12T-TR; Density: 256K; Organization: 32K x 8; Packing: Tape & Reel; Speed (ns): 12; DatasheetVersion: Rev. C; PackageVersion: Rev. F, 09/2009; PackageReference: TSOP-1-28; PackageDescription: 28-Pin 8 x 13.4 mm TSOP-1, Pitch 0.55 mm; Mounting Technology: Surface Mount; Code_JEDEC: MO- 183; ComponentLink1Description: Manufacturer URL; ComponentLink1URL: http://www.issi.com/US/index.shtml; ComponentLink2Description: Datasheet; ComponentLink2URL: http://www.issi.com/WW/pdf/61C256AL.pdf; ComponentLink3Description: Package Specification; ComponentLink3URL: http://www.issi.com/WW/pdf/62-65C256AL.pdf
footprint ISSI-TSOP-1-28-8000X13400DE_N (SOP, 28-Leads, Body 11.9x8.1mm, Pitch 0.55mm, IPC Medium Density)
pins: 1 A14 (in) "Address Input", 2 A12 (in) "Address Input", 3 A7 (in) "Address Input", 4 A6 (in) "Address Input", 5 A5 (in) "Address Input", 6 A4 (in) "Address Input", 7 A3 (in) "Address Input", 8 A2 (in) "Address Input", 9 A1 (in) "Address Input", 10 A0 (in) "Address Input", 11 I/O0 (io) "Input/Output", 12 I/O1 (io) "Input/Output", 13 I/O2 (io) "Input/Output", 14 GND (power) "Ground", 15 I/O3 (io) "Input/Output", 16 I/O4 (io) "Input/Output", 17 I/O5 (io) "Input/Output", 18 I/O6 (io) "Input/Output", 19 I/O7 (io) "Input/Output", 20 ~{CE} (in) "Chip Enable 1 Input", 21 A10 (in) "Address Input", 22 ~{OE} (in) "Output Enable Input", 23 A11 (in) "Address Input", 24 A9 (in) "Address Input", 25 A8 (in) "Address Input", 26 A13 (in) "Address Input", 27 ~{WE} (in) "Write Enable Input", 28 VDD (power) "Power"

## IS61C256AL-12TI
designator U?
256 K High Speed CMOS SRAM, 32 K x 8, -40 to 85 degC, 28-Pin SOP (TSOP-1-28); Manufacturer: Integrated Silicon Solution Inc (ISSI); PartNumber: IS61C256AL-12TI; Density: 256K; Organization: 32K x 8; Packing: Tray / Tube; Speed (ns): 12; DatasheetVersion: Rev. C; PackageVersion: Rev. F, 09/2009; PackageReference: TSOP-1-28; PackageDescription: 28-Pin 8 x 13.4 mm TSOP-1, Pitch 0.55 mm; Mounting Technology: Surface Mount; Code_JEDEC: MO- 183; ComponentLink1Description: Manufacturer URL; ComponentLink1URL: http://www.issi.com/US/index.shtml; ComponentLink2Description: Datasheet; ComponentLink2URL: http://www.issi.com/WW/pdf/61C256AL.pdf; ComponentLink3Description: Package Specification; ComponentLink3URL: http://www.issi.com/WW/pdf/62-65C256AL.pdf
footprint ISSI-TSOP-1-28-8000X13400DE_N (SOP, 28-Leads, Body 11.9x8.1mm, Pitch 0.55mm, IPC Medium Density)
pins: 1 A14 (in) "Address Input", 2 A12 (in) "Address Input", 3 A7 (in) "Address Input", 4 A6 (in) "Address Input", 5 A5 (in) "Address Input", 6 A4 (in) "Address Input", 7 A3 (in) "Address Input", 8 A2 (in) "Address Input", 9 A1 (in) "Address Input", 10 A0 (in) "Address Input", 11 I/O0 (io) "Input/Output", 12 I/O1 (io) "Input/Output", 13 I/O2 (io) "Input/Output", 14 GND (power) "Ground", 15 I/O3 (io) "Input/Output", 16 I/O4 (io) "Input/Output", 17 I/O5 (io) "Input/Output", 18 I/O6 (io) "Input/Output", 19 I/O7 (io) "Input/Output", 20 ~{CE} (in) "Chip Enable 1 Input", 21 A10 (in) "Address Input", 22 ~{OE} (in) "Output Enable Input", 23 A11 (in) "Address Input", 24 A9 (in) "Address Input", 25 A8 (in) "Address Input", 26 A13 (in) "Address Input", 27 ~{WE} (in) "Write Enable Input", 28 VDD (power) "Power"

## IS61C256AL-12TI-TR
designator U?
256 K High Speed CMOS SRAM, 32 K x 8, -40 to 85 degC, 28-Pin SOP (TSOP-1-28); Manufacturer: Integrated Silicon Solution Inc (ISSI); PartNumber: IS61C256AL-12TI-TR; Density: 256K; Organization: 32K x 8; Packing: Tape & Reel; Speed (ns): 12; DatasheetVersion: Rev. C; PackageVersion: Rev. F, 09/2009; PackageReference: TSOP-1-28; PackageDescription: 28-Pin 8 x 13.4 mm TSOP-1, Pitch 0.55 mm; Mounting Technology: Surface Mount; Code_JEDEC: MO- 183; ComponentLink1Description: Manufacturer URL; ComponentLink1URL: http://www.issi.com/US/index.shtml; ComponentLink2Description: Datasheet; ComponentLink2URL: http://www.issi.com/WW/pdf/61C256AL.pdf; ComponentLink3Description: Package Specification; ComponentLink3URL: http://www.issi.com/WW/pdf/62-65C256AL.pdf
footprint ISSI-TSOP-1-28-8000X13400DE_N (SOP, 28-Leads, Body 11.9x8.1mm, Pitch 0.55mm, IPC Medium Density)
pins: 1 A14 (in) "Address Input", 2 A12 (in) "Address Input", 3 A7 (in) "Address Input", 4 A6 (in) "Address Input", 5 A5 (in) "Address Input", 6 A4 (in) "Address Input", 7 A3 (in) "Address Input", 8 A2 (in) "Address Input", 9 A1 (in) "Address Input", 10 A0 (in) "Address Input", 11 I/O0 (io) "Input/Output", 12 I/O1 (io) "Input/Output", 13 I/O2 (io) "Input/Output", 14 GND (power) "Ground", 15 I/O3 (io) "Input/Output", 16 I/O4 (io) "Input/Output", 17 I/O5 (io) "Input/Output", 18 I/O6 (io) "Input/Output", 19 I/O7 (io) "Input/Output", 20 ~{CE} (in) "Chip Enable 1 Input", 21 A10 (in) "Address Input", 22 ~{OE} (in) "Output Enable Input", 23 A11 (in) "Address Input", 24 A9 (in) "Address Input", 25 A8 (in) "Address Input", 26 A13 (in) "Address Input", 27 ~{WE} (in) "Write Enable Input", 28 VDD (power) "Power"

## IS61C256AL-12TL
designator U?
256 K High Speed CMOS SRAM, 32 K x 8, 0 to 70 degC, 28-Pin SOP (TSOP-1-28), Pb-Free; Manufacturer: Integrated Silicon Solution Inc (ISSI); PartNumber: IS61C256AL-12TL; Density: 256K; Organization: 32K x 8; Packing: Tray / Tube; Speed (ns): 12; DatasheetVersion: Rev. C; PackageVersion: Rev. F, 09/2009; PackageReference: TSOP-1-28; PackageDescription: 28-Pin 8 x 13.4 mm TSOP-1, Pitch 0.55 mm; RoHS: Pb-Free; Mounting Technology: Surface Mount; Code_JEDEC: MO- 183; ComponentLink1Description: Manufacturer URL; ComponentLink1URL: http://www.issi.com/US/index.shtml; ComponentLink2Description: Datasheet; ComponentLink2URL: http://www.issi.com/WW/pdf/61C256AL.pdf; ComponentLink3Description: Package Specification; ComponentLink3URL: http://www.issi.com/WW/pdf/62-65C256AL.pdf
footprint ISSI-TSOP-1-28-8000X13400DE_N (SOP, 28-Leads, Body 11.9x8.1mm, Pitch 0.55mm, IPC Medium Density)
pins: 1 A14 (in) "Address Input", 2 A12 (in) "Address Input", 3 A7 (in) "Address Input", 4 A6 (in) "Address Input", 5 A5 (in) "Address Input", 6 A4 (in) "Address Input", 7 A3 (in) "Address Input", 8 A2 (in) "Address Input", 9 A1 (in) "Address Input", 10 A0 (in) "Address Input", 11 I/O0 (io) "Input/Output", 12 I/O1 (io) "Input/Output", 13 I/O2 (io) "Input/Output", 14 GND (power) "Ground", 15 I/O3 (io) "Input/Output", 16 I/O4 (io) "Input/Output", 17 I/O5 (io) "Input/Output", 18 I/O6 (io) "Input/Output", 19 I/O7 (io) "Input/Output", 20 ~{CE} (in) "Chip Enable 1 Input", 21 A10 (in) "Address Input", 22 ~{OE} (in) "Output Enable Input", 23 A11 (in) "Address Input", 24 A9 (in) "Address Input", 25 A8 (in) "Address Input", 26 A13 (in) "Address Input", 27 ~{WE} (in) "Write Enable Input", 28 VDD (power) "Power"

## IS61C256AL-12TL-TR
designator U?
256 K High Speed CMOS SRAM, 32 K x 8, 0 to 70 degC, 28-Pin SOP (TSOP-1-28), Pb-Free; Manufacturer: Integrated Silicon Solution Inc (ISSI); PartNumber: IS61C256AL-12TL-TR; Density: 256K; Organization: 32K x 8; Packing: Tape & Reel; Speed (ns): 12; DatasheetVersion: Rev. C; PackageVersion: Rev. F, 09/2009; PackageReference: TSOP-1-28; PackageDescription: 28-Pin 8 x 13.4 mm TSOP-1, Pitch 0.55 mm; RoHS: Pb-Free; Mounting Technology: Surface Mount; Code_JEDEC: MO- 183; ComponentLink1Description: Manufacturer URL; ComponentLink1URL: http://www.issi.com/US/index.shtml; ComponentLink2Description: Datasheet; ComponentLink2URL: http://www.issi.com/WW/pdf/61C256AL.pdf; ComponentLink3Description: Package Specification; ComponentLink3URL: http://www.issi.com/WW/pdf/62-65C256AL.pdf
footprint ISSI-TSOP-1-28-8000X13400DE_N (SOP, 28-Leads, Body 11.9x8.1mm, Pitch 0.55mm, IPC Medium Density)
pins: 1 A14 (in) "Address Input", 2 A12 (in) "Address Input", 3 A7 (in) "Address Input", 4 A6 (in) "Address Input", 5 A5 (in) "Address Input", 6 A4 (in) "Address Input", 7 A3 (in) "Address Input", 8 A2 (in) "Address Input", 9 A1 (in) "Address Input", 10 A0 (in) "Address Input", 11 I/O0 (io) "Input/Output", 12 I/O1 (io) "Input/Output", 13 I/O2 (io) "Input/Output", 14 GND (power) "Ground", 15 I/O3 (io) "Input/Output", 16 I/O4 (io) "Input/Output", 17 I/O5 (io) "Input/Output", 18 I/O6 (io) "Input/Output", 19 I/O7 (io) "Input/Output", 20 ~{CE} (in) "Chip Enable 1 Input", 21 A10 (in) "Address Input", 22 ~{OE} (in) "Output Enable Input", 23 A11 (in) "Address Input", 24 A9 (in) "Address Input", 25 A8 (in) "Address Input", 26 A13 (in) "Address Input", 27 ~{WE} (in) "Write Enable Input", 28 VDD (power) "Power"

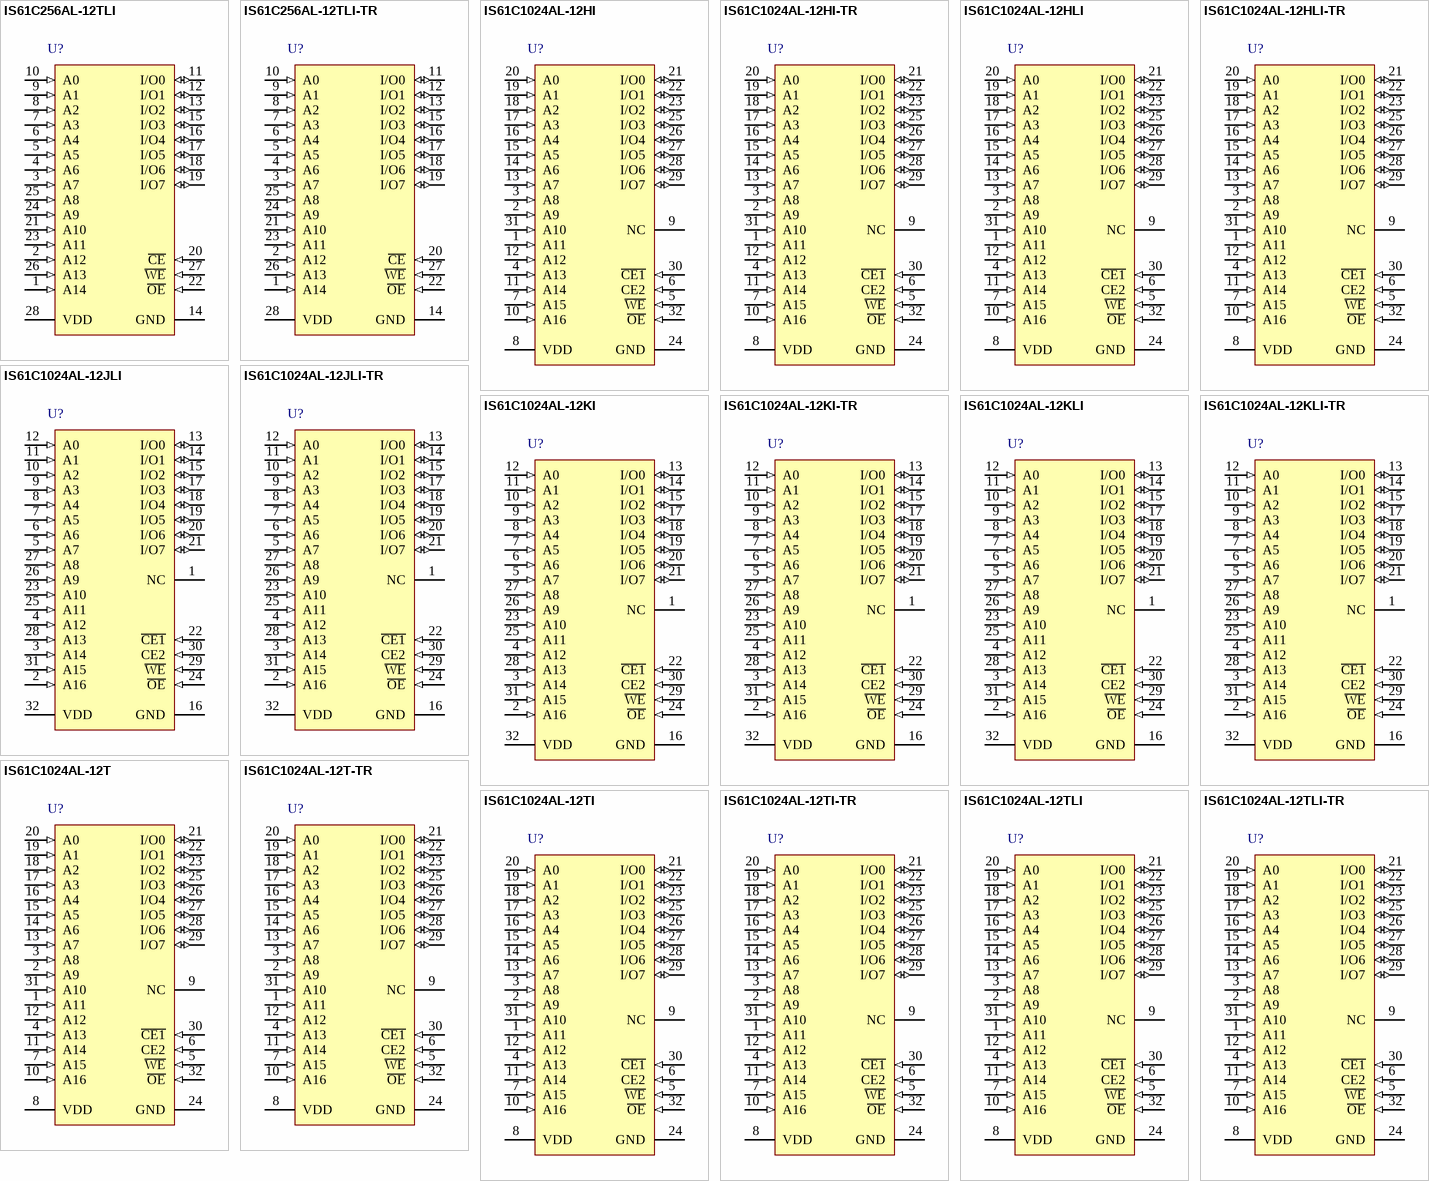
[diagram p1: symbols IS61C256AL-12TLI to IS61C1024AL-12TLI-TR]

## IS61C256AL-12TLI
designator U?
256 K High Speed CMOS SRAM, 32 K x 8, -40 to 85 degC, 28-Pin SOP (TSOP-1-28), Pb-Free; Manufacturer: Integrated Silicon Solution Inc (ISSI); PartNumber: IS61C256AL-12TLI; Density: 256K; Organization: 32K x 8; Packing: Tray / Tube; Speed (ns): 12; DatasheetVersion: Rev. C; PackageVersion: Rev. F, 09/2009; PackageReference: TSOP-1-28; PackageDescription: 28-Pin 8 x 13.4 mm TSOP-1, Pitch 0.55 mm; Supplier 1: Digi-Key; Supplier Part Number 1: 706-1031-ND; Supplier 2: Newark; Supplier Part Number 2: 43M5037; Supplier 3: Mouser; Supplier Part Number 3: 870-IS61C256AL-12TLI; RoHS: Pb-Free; Mounting Technology: Surface Mount; Code_JEDEC: MO- 183; ComponentLink1Description: Manufacturer URL; ComponentLink1URL: http://www.issi.com/US/index.shtml; ComponentLink2Description: Datasheet; ComponentLink2URL: http://www.issi.com/WW/pdf/61C256AL.pdf; ComponentLink3Description: Package Specification; ComponentLink3URL: http://www.issi.com/WW/pdf/62-65C256AL.pdf
footprint ISSI-TSOP-1-28-8000X13400DE_N (SOP, 28-Leads, Body 11.9x8.1mm, Pitch 0.55mm, IPC Medium Density)
pins: 1 A14 (in) "Address Input", 2 A12 (in) "Address Input", 3 A7 (in) "Address Input", 4 A6 (in) "Address Input", 5 A5 (in) "Address Input", 6 A4 (in) "Address Input", 7 A3 (in) "Address Input", 8 A2 (in) "Address Input", 9 A1 (in) "Address Input", 10 A0 (in) "Address Input", 11 I/O0 (io) "Input/Output", 12 I/O1 (io) "Input/Output", 13 I/O2 (io) "Input/Output", 14 GND (power) "Ground", 15 I/O3 (io) "Input/Output", 16 I/O4 (io) "Input/Output", 17 I/O5 (io) "Input/Output", 18 I/O6 (io) "Input/Output", 19 I/O7 (io) "Input/Output", 20 ~{CE} (in) "Chip Enable 1 Input", 21 A10 (in) "Address Input", 22 ~{OE} (in) "Output Enable Input", 23 A11 (in) "Address Input", 24 A9 (in) "Address Input", 25 A8 (in) "Address Input", 26 A13 (in) "Address Input", 27 ~{WE} (in) "Write Enable Input", 28 VDD (power) "Power"

## IS61C256AL-12TLI-TR
designator U?
256 K High Speed CMOS SRAM, 32 K x 8, -40 to 85 degC, 28-Pin SOP (TSOP-1-28), Pb-Free; Manufacturer: Integrated Silicon Solution Inc (ISSI); PartNumber: IS61C256AL-12TLI-TR; Density: 256K; Organization: 32K x 8; Packing: Tape & Reel; Speed (ns): 12; DatasheetVersion: Rev. C; PackageVersion: Rev. F, 09/2009; PackageReference: TSOP-1-28; PackageDescription: 28-Pin 8 x 13.4 mm TSOP-1, Pitch 0.55 mm; Supplier 1: Digi-Key; Supplier Part Number 1: IS61C256AL-12TLI-TR-ND; Supplier 2: Mouser; Supplier Part Number 2: 870-61C256AL12TLITR; RoHS: Pb-Free; Mounting Technology: Surface Mount; Code_JEDEC: MO- 183; ComponentLink1Description: Manufacturer URL; ComponentLink1URL: http://www.issi.com/US/index.shtml; ComponentLink2Description: Datasheet; ComponentLink2URL: http://www.issi.com/WW/pdf/61C256AL.pdf; ComponentLink3Description: Package Specification; ComponentLink3URL: http://www.issi.com/WW/pdf/62-65C256AL.pdf
footprint ISSI-TSOP-1-28-8000X13400DE_N (SOP, 28-Leads, Body 11.9x8.1mm, Pitch 0.55mm, IPC Medium Density)
pins: 1 A14 (in) "Address Input", 2 A12 (in) "Address Input", 3 A7 (in) "Address Input", 4 A6 (in) "Address Input", 5 A5 (in) "Address Input", 6 A4 (in) "Address Input", 7 A3 (in) "Address Input", 8 A2 (in) "Address Input", 9 A1 (in) "Address Input", 10 A0 (in) "Address Input", 11 I/O0 (io) "Input/Output", 12 I/O1 (io) "Input/Output", 13 I/O2 (io) "Input/Output", 14 GND (power) "Ground", 15 I/O3 (io) "Input/Output", 16 I/O4 (io) "Input/Output", 17 I/O5 (io) "Input/Output", 18 I/O6 (io) "Input/Output", 19 I/O7 (io) "Input/Output", 20 ~{CE} (in) "Chip Enable 1 Input", 21 A10 (in) "Address Input", 22 ~{OE} (in) "Output Enable Input", 23 A11 (in) "Address Input", 24 A9 (in) "Address Input", 25 A8 (in) "Address Input", 26 A13 (in) "Address Input", 27 ~{WE} (in) "Write Enable Input", 28 VDD (power) "Power"

## IS61C1024AL-12HI
designator U?
1 M High Speed CMOS SRAM, 128 K x 8, -40 to 85 degC, 32-Pin SOP (TSOP-1-32); Manufacturer: Integrated Silicon Solution Inc (ISSI); PartNumber: IS61C1024AL-12HI; Density: 1M; Organization: 128K x 8; Packing: Tray / Tube; Speed (ns): 12; DatasheetVersion: Rev. D; PackageVersion: Rev. B, 04/2003; PackageReference: TSOP-1-32; PackageDescription: 32-Pin 8.00 x 13.4 mm TSOP-1, Pitch 0.5 mm; Mounting Technology: Surface Mount; ComponentLink1Description: Manufacturer URL; ComponentLink1URL: http://www.issi.com/US/index.shtml; ComponentLink2Description: Datasheet; ComponentLink2URL: http://www.issi.com/WW/pdf/61-64C1024AL.pdf; ComponentLink3Description: Package Specification; ComponentLink3URL: http://www.issi.com/WW/pdf/61-64C1024AL.pdf
footprint ISSI-TSOP-1-32-8000x13400DE_N (SOP, 32-Leads, Body 11.9x8.1mm, Pitch 0.5mm, IPC Medium Density)
pins: 1 A11 (in) "Address Input", 2 A9 (in) "Address Input", 3 A8 (in) "Address Input", 4 A13 (in) "Address Input", 5 ~{WE} (in) "Write Enable Input", 6 CE2 (in) "Chip Enable 2 Input", 7 A15 (in) "Address Input", 8 VDD (power) "Power", 9 NC "No Connection", 10 A16 (in) "Address Input", 11 A14 (in) "Address Input", 12 A12 (in) "Address Input", 13 A7 (in) "Address Input", 14 A6 (in) "Address Input", 15 A5 (in) "Address Input", 16 A4 (in) "Address Input", 17 A3 (in) "Address Input", 18 A2 (in) "Address Input", 19 A1 (in) "Address Input", 20 A0 (in) "Address Input", 21 I/O0 (io) "Input/Output", 22 I/O1 (io) "Input/Output", 23 I/O2 (io) "Input/Output", 24 GND (power) "Ground", 25 I/O3 (io) "Input/Output", 26 I/O4 (io) "Input/Output", 27 I/O5 (io) "Input/Output", 28 I/O6 (io) "Input/Output", 29 I/O7 (io) "Input/Output", 30 ~{CE1} (in) "Chip Enable 1 Input", 31 A10 (in) "Address Input", 32 ~{OE} (in) "Output Enable Input"

## IS61C1024AL-12HI-TR
designator U?
1 M High Speed CMOS SRAM, 128 K x 8, -40 to 85 degC, 32-Pin SOP (TSOP-1-32); Manufacturer: Integrated Silicon Solution Inc (ISSI); PartNumber: IS61C1024AL-12HI-TR; Density: 1M; Organization: 128K x 8; Packing: Tape & Reel; Speed (ns): 12; DatasheetVersion: Rev. D; PackageVersion: Rev. B, 04/2003; PackageReference: TSOP-1-32; PackageDescription: 32-Pin 8.00 x 13.4 mm TSOP-1, Pitch 0.5 mm; Mounting Technology: Surface Mount; ComponentLink1Description: Manufacturer URL; ComponentLink1URL: http://www.issi.com/US/index.shtml; ComponentLink2Description: Datasheet; ComponentLink2URL: http://www.issi.com/WW/pdf/61-64C1024AL.pdf; ComponentLink3Description: Package Specification; ComponentLink3URL: http://www.issi.com/WW/pdf/61-64C1024AL.pdf
footprint ISSI-TSOP-1-32-8000x13400DE_N (SOP, 32-Leads, Body 11.9x8.1mm, Pitch 0.5mm, IPC Medium Density)
pins: 1 A11 (in) "Address Input", 2 A9 (in) "Address Input", 3 A8 (in) "Address Input", 4 A13 (in) "Address Input", 5 ~{WE} (in) "Write Enable Input", 6 CE2 (in) "Chip Enable 2 Input", 7 A15 (in) "Address Input", 8 VDD (power) "Power", 9 NC "No Connection", 10 A16 (in) "Address Input", 11 A14 (in) "Address Input", 12 A12 (in) "Address Input", 13 A7 (in) "Address Input", 14 A6 (in) "Address Input", 15 A5 (in) "Address Input", 16 A4 (in) "Address Input", 17 A3 (in) "Address Input", 18 A2 (in) "Address Input", 19 A1 (in) "Address Input", 20 A0 (in) "Address Input", 21 I/O0 (io) "Input/Output", 22 I/O1 (io) "Input/Output", 23 I/O2 (io) "Input/Output", 24 GND (power) "Ground", 25 I/O3 (io) "Input/Output", 26 I/O4 (io) "Input/Output", 27 I/O5 (io) "Input/Output", 28 I/O6 (io) "Input/Output", 29 I/O7 (io) "Input/Output", 30 ~{CE1} (in) "Chip Enable 1 Input", 31 A10 (in) "Address Input", 32 ~{OE} (in) "Output Enable Input"